# Altium footprint library Sheye-Diode.PcbLib: 32 footprints (part 2 of 2)
Each footprint in its own frame and in the unit in brackets; x right, y up, seen from the top. Pads: shape width x height; smd on the part's side, far side on the other; paste and mask are expansions set on the pad; w line width, h text height; cw(c..) or ccw(c..) is an arc to the next point about the centre after c.
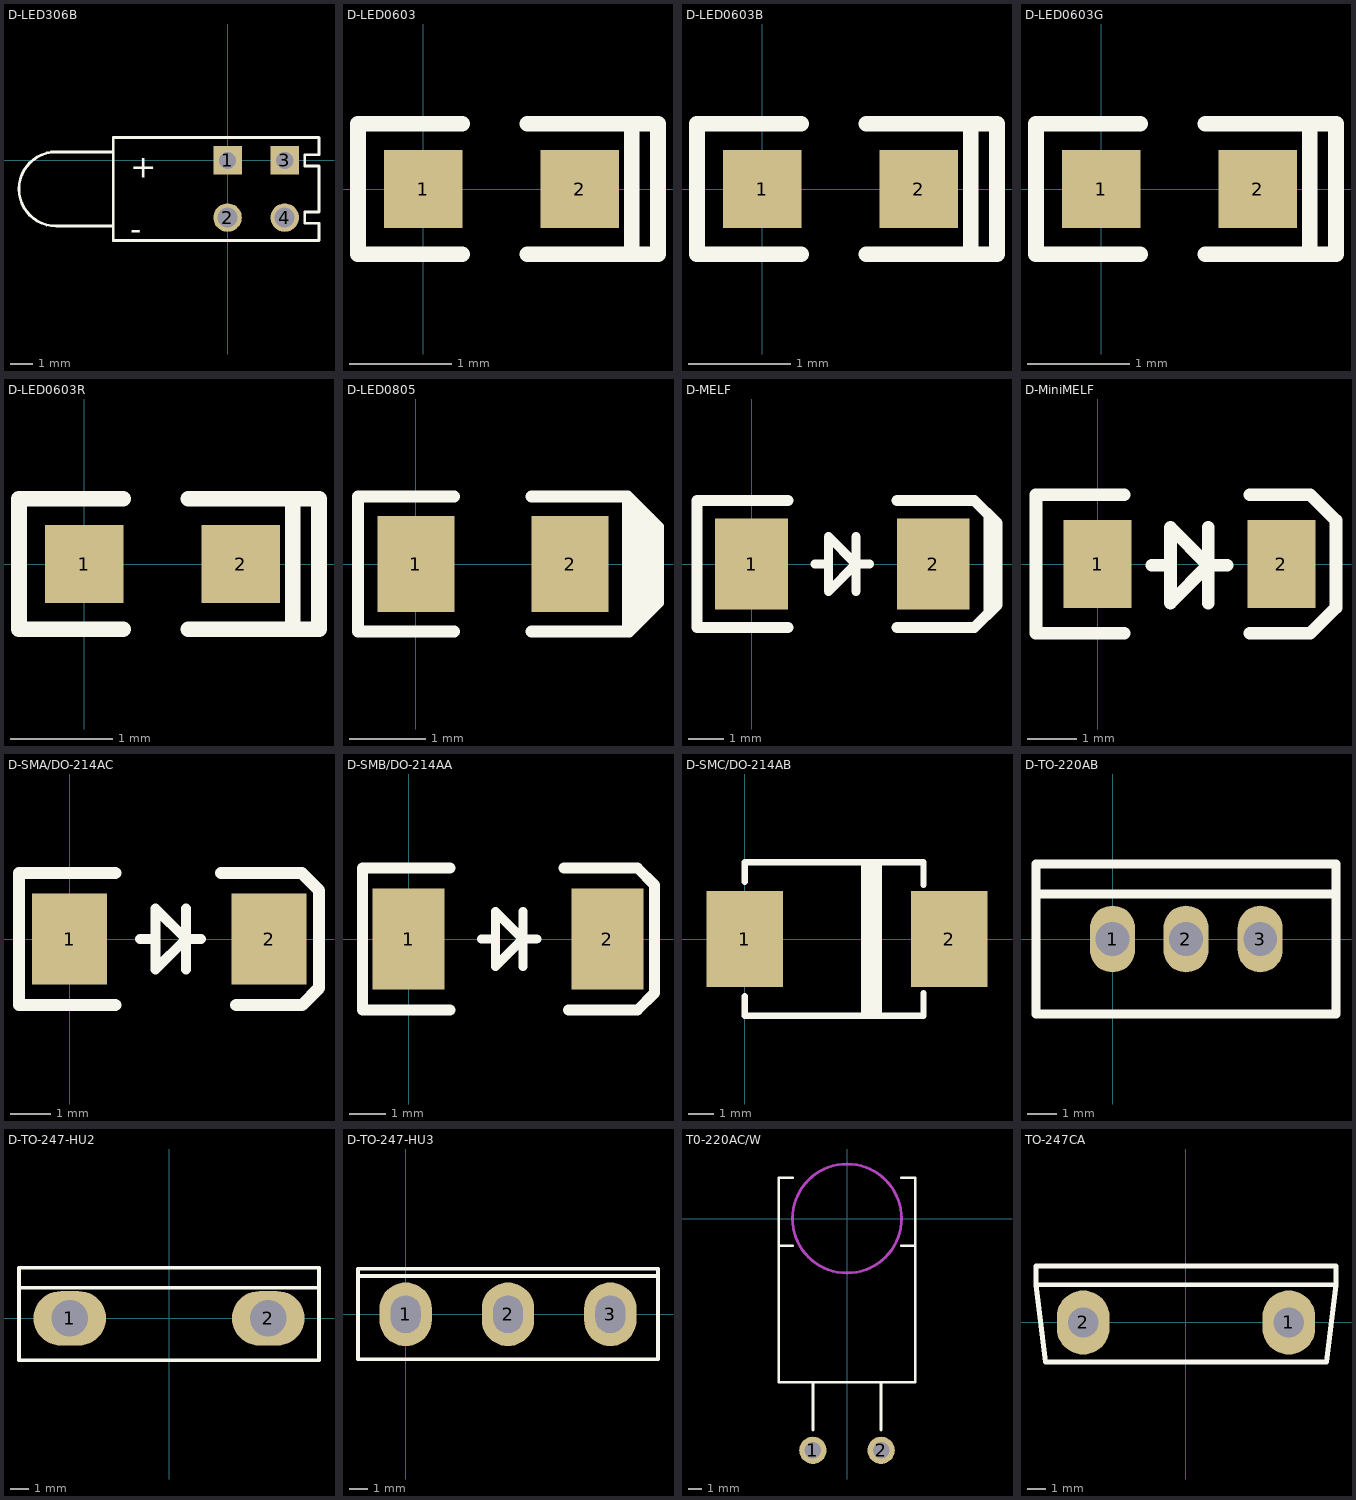
[diagram p1: the footprints below, top view; thin cyan lines are the x and y axes]

## D-LED306B [mil]
height 39.37
pads (4):
  rect 50x50 hole 30: 1(0,0) 3(100,0)
  round 50 hole 35: 2(0,-100) 4(100,-100)
Top Overlay:
  lines w5: -200,-115 -200.08,-114.92 -300,-114.92 cw(c-300,-49.96) -300,15 -200,15 ; -200,-140 160,-140 160,-110 135,-110 135,-90 160,-90 160,-10 135,-10 135,10 160,10 160,40 -200,40 -200,-140
  text "+" at -170,-30 h40
  text "-" at -170,-140 h40
3D body: height 19.68, standoff -39.37, extent 92.14,-108 107.86,-92.31
3D body: height 176.7, standoff 59.06, extent -302.74,-109 -145.26,8.88
3D body: height 177.17, standoff 59.06, extent -365.61,-108.75 -248,8.75
3D body: height 377.95, standoff 0, extent -195,-135 155,35
3D body: height 19.68, standoff -39.37, extent -7.72,-7.84 8,7.84
3D body: height 334.65, standoff 216.54, extent -365.61,-108.75 -248,8.75
3D body: height 334.18, standoff 216.54, extent -302.74,-109 -145.26,8.88
3D body: height 19.68, standoff -39.37, extent -8,-107.84 7.72,-92.16
3D body: height 19.68, standoff -39.37, extent 92.28,-7.84 108,7.84

## D-LED0603 [mil]
height 39.37
pads (2):
  rect 30x30 smd: 1(0,0) 2(60,0)
Top Overlay:
  lines w6: 15,-25 -25,-25 -25,25 15,25 ; 40,-25 90,-25 90,25 40,25 ; 80,-25 80,25
3D body: height 23.62, standoff 0, extent -1.89,-16.5 61.89,15

## D-LED0603B [mil]
height 39.37
pads (2):
  rect 30x30 smd: 1(0,0) 2(60,0)
Top Overlay:
  lines w6: 15,-25 -25,-25 -25,25 15,25 ; 40,-25 90,-25 90,25 40,25 ; 80,-25 80,25
3D body: height 23.62, standoff 0, extent -1.89,-16.5 61.89,15

## D-LED0603G [mil]
height 39.37
pads (2):
  rect 30x30 smd: 1(0,0) 2(60,0)
Top Overlay:
  lines w6: 15,-25 -25,-25 -25,25 15,25 ; 40,-25 90,-25 90,25 40,25 ; 80,-25 80,25
3D body: height 23.62, standoff 0, extent -1.89,-16.5 61.89,15

## D-LED0603R [mil]
height 39.37
pads (2):
  rect 30x30 smd: 1(0,0) 2(60,0)
Top Overlay:
  lines w6: 15,-25 -25,-25 -25,25 15,25 ; 40,-25 90,-25 90,25 40,25 ; 80,-25 80,25
3D body: height 23.62, standoff 0, extent -1.89,-16.5 61.89,15

## D-LED0805 [mil]
height 39.37
pads (2):
  rect 40x50 smd: 1(0,0) 2(80,0)
Top Overlay:
  lines w6: 20,-35 -30,-35 -30,35 20,35 ; 60,-35 110,-35 ; 60,35 110,35 ; 113.96,-26.23 113.96,31.04 ; 118.02,-22.18 118.02,26.98 ; 121.3,-18.9 121.3,23.7 ; 110,-35 110.83,-35 125.63,-20.2 125.63,19.37 110,35 ; 110,-35 110,35
3D body: height 21.65, standoff 0, extent 0.63,-25 79.37,24.61

## D-MELF [mil]
pads (2):
  rect 80x100 smd: 1(0,0) 2(200,0)
Top Overlay:
  lines w10: 69.84,0 84.84,0 ; 114.84,-30 114.84,30 ; 129.84,0 114.84,0 ; 260.4,-54.52 260.4,54.6 ; 114.84,0 84.84,30 84.84,-25 84.84,-30 114.84,0
  lines w12: 40,-70 -60,-70 -60,70 40,70 ; 160,-70 245,-70 270,-45 270,45 245,70 160,70
3D body: height 3.94, standoff 0, extent 193,-34 229,36
3D body: height 3.94, standoff 0, extent -30,-34 6,36
3D body: height 102.36, standoff 3.94, extent -16,-55 165,59
3D body: height 102.36, standoff 3.94, extent 165,-55 194,59
3D body: height 102.36, standoff 3.94, extent 194,-55 213,59

## D-MiniMELF [mil]
pads (2):
  rect 54x70 smd: 1(0,0) 2(146,0)
Top Overlay:
  lines w10: 21,-55 -49,-55 -49,55 21,55 ; 42.84,-1 57.84,-1 ; 87.84,-31 87.84,29 ; 102.84,-1 87.84,-1 ; 121,-55 169,-55 189.38,-34.62 189.38,34.62 169,55 121,55 ; 87.84,-1 57.84,29 57.84,-26 57.84,-31 87.84,-1
3D body: height 3.94, standoff 0, extent -20,-28 12,29
3D body: height 62.99, standoff 3.94, extent -7,-45 120,45
3D body: height 62.99, standoff 3.94, extent 120,-45 140,45
3D body: height 62.99, standoff 3.94, extent 140,-45 152,45
3D body: height 3.94, standoff 0, extent 133,-28 165,29

## D-SMA/DO-214AC [mil]
pads (2):
  rect 74x90 smd: 1(0,0) 2(196.85,0)
Top Overlay:
  lines w10: 69.69,0 84.69,0 ; 114.69,-30 114.69,30 ; 129.69,0 114.69,0 ; 114.69,0 84.69,30 84.69,-25 84.69,-30 114.69,0
  lines w12: 45,-65 -50,-65 -50,65 45,65 ; 149.37,65 229,65 246,48 246,-48.37 229.37,-65 164.37,-65 ; 180,-65 190,-65 ; 180,65 190,65
3D body: height 3.94, standoff 0, extent 180.37,-30.5 216.37,30.5
3D body: height 3.94, standoff 0, extent -21,-30.5 15,30.5
3D body: height 90.55, standoff 3.94, extent -7,-57 156.37,57
3D body: height 90.55, standoff 3.94, extent 156.37,-57 184.37,57
3D body: height 90.55, standoff 3.94, extent 184.37,-57 202.37,57

## D-SMB/DO-214AA [mm]
pads (2):
  rect 2x2.8 smd: 1(0,0) 2(5.5,0)
Top Overlay:
  lines w0.254: 2.02,0 2.401,0 ; 3.163,-0.762 3.163,0.762 ; 3.544,0 3.163,0 ; 3.163,0 2.401,-0.762 2.401,-0.635 2.401,0.762 3.163,0
  lines w0.305: 1.143,-1.971 -1.27,-1.971 -1.27,1.971 1.143,1.971 ; 4.294,1.971 6.326,1.971 ; 4.421,-1.971 6.072,-1.971 6.326,-1.971 6.807,-1.49 6.807,1.49 6.326,1.971 ; 6.072,1.971 6.326,1.971
3D body: height 0.1, standoff 0, extent 5.14,-0.864 6.105,0.864
3D body: height 2.44, standoff 0.1, extent 5.318,-1.651 5.75,1.651
3D body: height 2.44, standoff 0.1, extent 4.658,-1.651 5.318,1.651
3D body: height 2.44, standoff 0.1, extent -0.254,-1.651 4.658,1.651
3D body: height 0.1, standoff 0, extent -0.635,-0.864 0.33,0.864

## D-SMC/DO-214AB [mil] "Magnetic-Core Inductor with Winding Polarity Marking; 2 Leads"
pads (2):
  rect 120x150 smd: 1(0,0) 2(320.08,0)
Top Overlay:
  rectangle: 182,-120 215,120
  lines w10: 0,-90 0,-120 280,-120 280,-85 ; 0,90 0,120 280,120 280,85
3D body: height 3.94, standoff 0, extent 286.37,-58 354.37,59
3D body: height 96.06, standoff 3.94, extent 300.37,-110 324.37,110
3D body: height 96.06, standoff 3.94, extent 246.37,-110 301.37,110
3D body: height 96.06, standoff 3.94, extent -4,-110 246.37,110
3D body: height 3.94, standoff 0, extent -37,-58 31,59

## D-TO-220AB [mil]
pads (3):
  oval 60x89 hole 45: 1(0,0) 2(98,0) 3(197,0)
Top Overlay:
  lines w12: -102,60 298,60 ; -102,-100 -102,100 298,100 298,-100 -102,-100
3D body: height 550, standoff 150, extent -100,-80 300,100
3D body: height 850, standoff 550, extent -100,60 300,100
3D body: height 150, standoff -40, extent -20,-5 20,5
3D body: height 150, standoff -40, extent 78,-5 118,5
3D body: height 150, standoff -40, extent 177,-5 217,5

## D-TO-247-HU2 [mm]
pads (2):
  oval 4x3 hole 2: 1(-5.461,0) 2(5.461,0)
Top Overlay:
  lines w0.2: -8.255,-2.31 8.255,-2.31 ; -8.255,-2.296 -8.255,2.79 8.255,2.79 8.255,-2.296 ; -8.255,1.691 8.255,1.691
3D body: height 4.83, standoff -1.02, extent 4.699,-0.254 6.223,0.254
3D body: height 4.83, standoff -1.02, extent -6.248,-0.254 -4.724,0.254
3D body: height 24.64, standoff 4.32, extent -8.026,-2.108 7.976,2.21
3D body: height 4.83, standoff 2.5, extent -0.838,-0.254 0.686,0.254
3D body: height 2.8, standoff 1.8, extent -4.724,-0.254 0.686,0.254

## D-TO-247-HU3 [mm]
pads (3):
  oval 2.8x3.4 hole 1.6 slot 2 at 90 deg: 1(0,0) 2(5.461,0) 3(10.922,0)
Top Overlay:
  lines w0.2: -2.54,2.047 13.462,2.047 ; -2.54,-2.398 13.462,-2.398 13.462,2.428 -2.54,2.428 -2.54,-2.398
3D body: height 4.83, standoff -1.02, extent 10.16,-0.254 11.684,0.254
3D body: height 4.83, standoff -1.02, extent 4.699,-0.254 6.223,0.254
3D body: height 4.83, standoff -1.02, extent -0.762,-0.254 0.762,0.254
3D body: height 24.64, standoff 4.32, extent -2.54,-2.286 13.462,2.032

## T0-220AC/W [mm]
pads (2):
  round 2 hole 1.2: 1(-2.502,-17) 2(2.502,-17)
Top Overlay:
  lines w0.2: -5,-2 -4,-2 ; -4,3 -5,3 -5,-12 5,-12 5,3 4,3 ; -2.5,-15.5 -2.5,-12 ; 2.5,-15.5 2.5,-12 ; 4,-2 5,-2
Keep-Out Layer:
  circle w0.2: c0,0 r4
Mechanical 1:
  circle w0.2: c0,0 r4
3D body: height 3.81, standoff -1.02, extent -3.01,-17.127 -1.994,-16.873
3D body: height 3.81, standoff -1.02, extent 1.994,-17.127 3.01,-16.873

## TO-247CA [mm]
pads (2):
  oval 2.8x3.4 hole 1.6: 1(5.45,0) 2(-5.45,0)
Top Overlay:
  lines w0.254: -7.95,2 -7.95,3 7.95,3 7.95,2 ; -7.95,2 7.95,2 ; -7.95,2 -7.45,-2.1 7.45,-2.1 7.95,2
3D body: height 24.64, standoff 4.32, extent -6.952,-1.802 6.952,1.802
3D body: height 4.83, standoff -1.02, extent -8.077,-2.227 8.077,3.127
3D body: height 4.83, standoff -1.02, extent -7.949,2.001 7.949,2.999
3D body: height 4.83, standoff -1.02, extent -8.077,-2.227 8.077,3.127